# Altium footprint library Connector_JST.PcbLib: 558 footprints (part 9 of 35)
Each footprint in its own frame and in the unit in brackets; x right, y up, seen from the top. Pads: shape width x height; smd on the part's side, far side on the other; paste and mask are expansions set on the pad; w line width, h text height; cw(c..) or ccw(c..) is an arc to the next point about the centre after c.
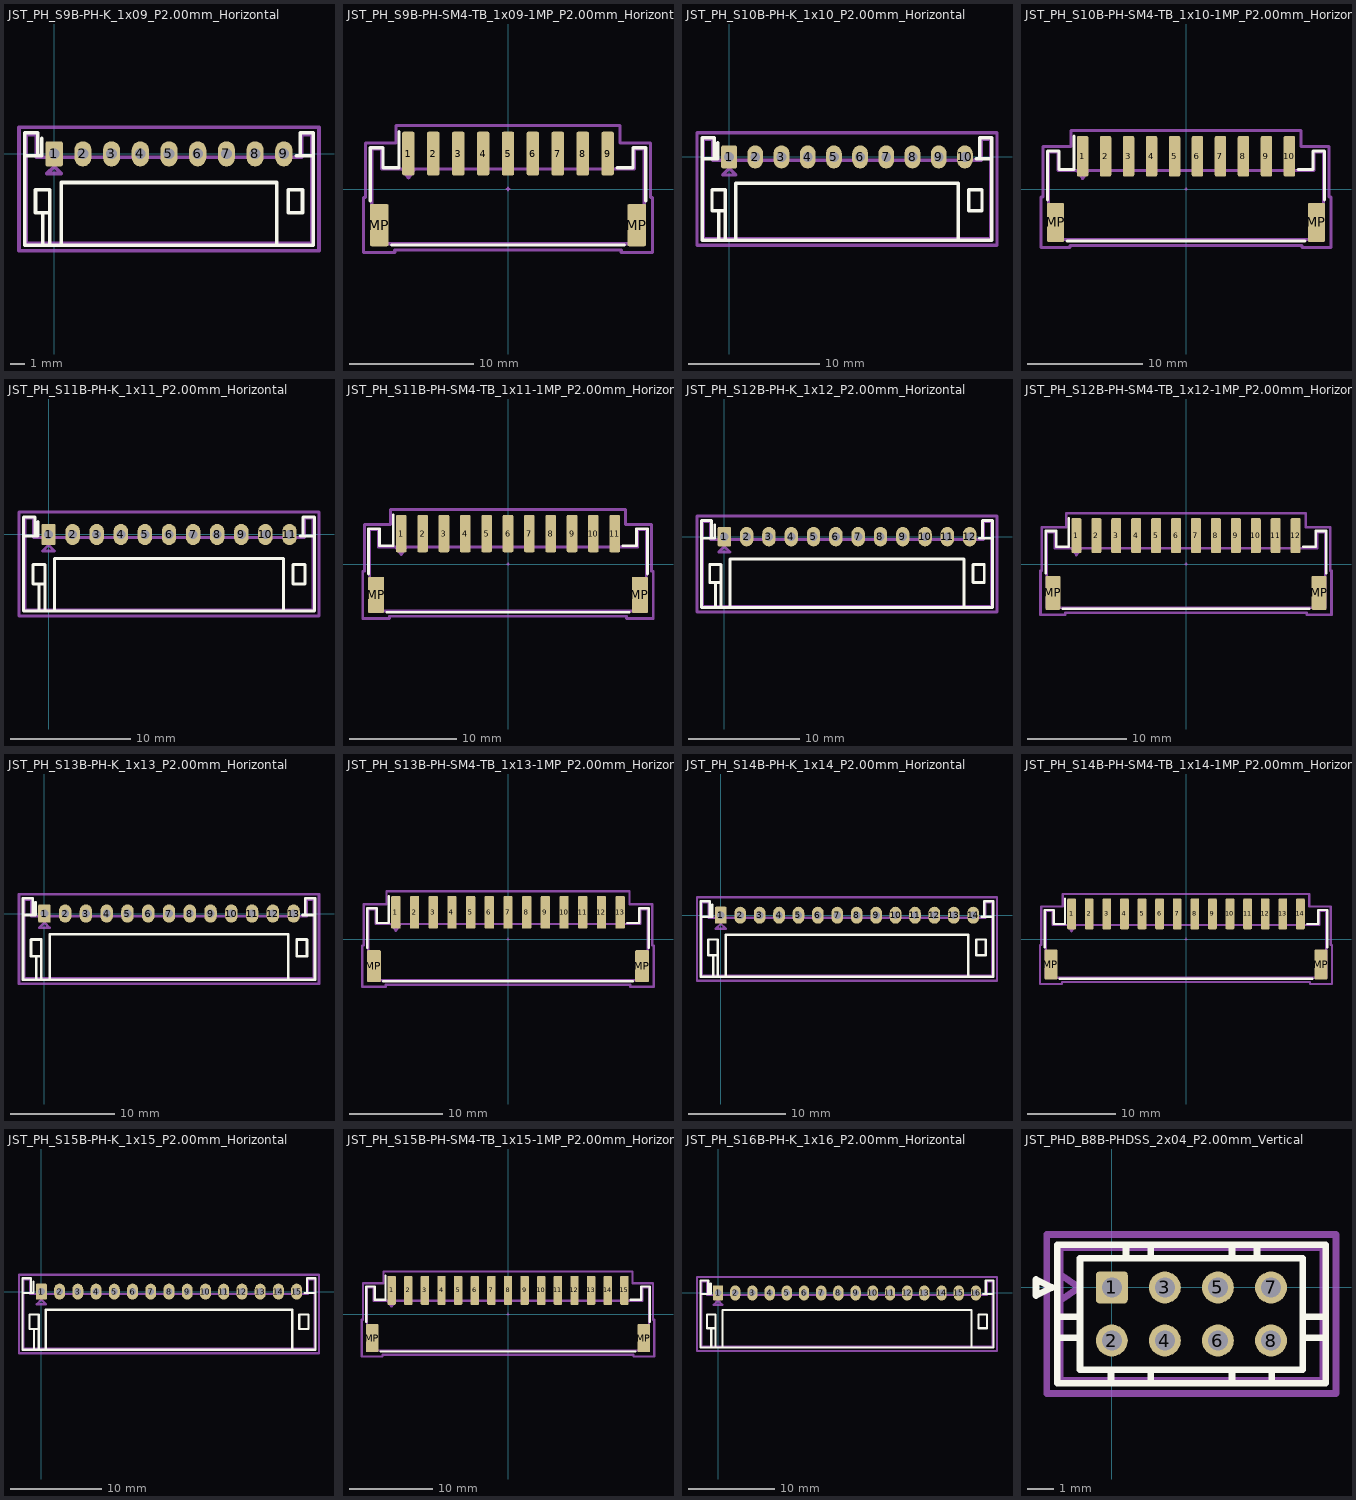
[diagram p8: the footprints below, top view; thin cyan lines are the x and y axes]

## JST_PH_S9B-PH-K_1x09_P2.00mm_Horizontal [mm] "JST_PH_S9B-PH-K_1x09_P2.00mm_Horizontal"
pads (9):
  rrect21% 1.2x1.75 hole 0.75: 1(0,0)
  rrect100% 1.2x1.75 hole 0.75: 2(2,0) 3(4,0) 4(6,0) 5(8,0) 6(10,0) 7(12,0) 8(14,0) 9(16,0)
F.SilkS:
  lines w0.254: -2.06,-0.14 -1.14,-0.14 ; -0.86,1.075 -0.86,-0.14 -1.14,-0.14 ; -0.8,-6.36 -0.8,-4.1 ; -0.3,-6.36 -0.3,-4.1 ; 0.5,-6.36 0.5,-2 15.5,-2 15.5,-6.36 ; 16.86,-0.14 17.14,-0.14 ; 18.06,-0.14 17.14,-0.14 ; -1.14,-0.14 -1.14,1.46 -2.06,1.46 -2.06,-6.36 18.06,-6.36 18.06,1.46 17.14,1.46 17.14,-0.14 ; -0.3,-4.1 -0.3,-2.5 -1.3,-2.5 -1.3,-4.1 -0.3,-4.1 ; 16.3,-4.1 17.3,-4.1 17.3,-2.5 16.3,-2.5 16.3,-4.1
Top Component Center:
  lines w0.127: -0.127,0 0.127,0 ; 0,-0.127 0,0.127
Top Assembly:
  lines w0.254: -1.95,-6.25 17.95,-6.25 17.95,1.35 17.25,1.35 17.25,-0.25 -1.25,-0.25 -1.25,1.35 -1.95,1.35 -1.95,-6.25 ; -0.5,-1.375 0,-0.875 0.5,-1.375 -0.5,-1.375
Top Courtyard:
  lines w0.254: -2.45,-6.75 18.45,-6.75 18.45,1.85 -2.45,1.85 -2.45,-6.75
Top Designator:
  text ".Designator" at 4.444,-4.408 h1.52
3D body "JST_PH_S9B-PH-K_1x09_P2.00mm_Horizontal.step": height 4.85, standoff -3.4, extent -1.95,-6.25 17.95,1.35

## JST_PH_S9B-PH-SM4-TB_1x09-1MP_P2.00mm_Horizontal [mm] "JST_PH_S9B-PH-SM4-TB_1x09-1MP_P2.00mm_Horizontal"
pads (11):
  rrect25% 1x3.5 smd: 1(-8,2.85) 2(-6,2.85) 3(-4,2.85) 4(-2,2.85) 5(0,2.85) 6(2,2.85) 7(4,2.85) 8(6,2.85) 9(8,2.85)
  rrect17% 1.5x3.4 smd: MP(-10.35,-2.9) MP(10.35,-2.9)
F.SilkS:
  lines w0.254: -11.06,-0.94 -11.06,3.31 -10.04,3.31 -10.04,1.71 -8.76,1.71 -8.76,4.6 ; -9.34,-4.51 9.34,-4.51 ; 8.76,1.71 10.04,1.71 10.04,3.31 11.06,3.31 11.06,-0.94
Top Component Center:
  lines w0.127: -0.127,0 0.127,0 ; 0,-0.127 0,0.127
Top Assembly:
  lines w0.254: -8.5,1.6 -8,0.893 -7.5,1.6 ; -10.95,-4.4 10.95,-4.4 10.95,3.2 10.15,3.2 10.15,1.6 -10.15,1.6 -10.15,3.2 -10.95,3.2 -10.95,-4.4
Top Courtyard:
  lines w0.254: -11.6,-5.1 -9.1,-5.1 -9.1,-4.9 9.1,-4.9 9.1,-5.1 11.6,-5.1 11.6,-0.69 11.45,-0.69 11.45,3.7 9,3.7 9,5.1 -9,5.1 -9,3.7 -11.45,3.7 -11.45,-0.69 -11.6,-0.69 -11.6,-5.1
Top Designator:
  text ".Designator" at -3.43,-0.344 h1.52

## JST_PH_S10B-PH-K_1x10_P2.00mm_Horizontal [mm] "JST_PH_S10B-PH-K_1x10_P2.00mm_Horizontal"
pads (10):
  rrect21% 1.2x1.75 hole 0.75: 1(0,0)
  rrect100% 1.2x1.75 hole 0.75: 2(2,0) 3(4,0) 4(6,0) 5(8,0) 6(10,0) 7(12,0) 8(14,0) 9(16,0) 10(18,0)
F.SilkS:
  lines w0.254: -2.06,-0.14 -1.14,-0.14 ; -0.86,1.075 -0.86,-0.14 -1.14,-0.14 ; -0.8,-6.36 -0.8,-4.1 ; -0.3,-6.36 -0.3,-4.1 ; 0.5,-6.36 0.5,-2 17.5,-2 17.5,-6.36 ; 18.86,-0.14 19.14,-0.14 ; 20.06,-0.14 19.14,-0.14 ; -1.14,-0.14 -1.14,1.46 -2.06,1.46 -2.06,-6.36 20.06,-6.36 20.06,1.46 19.14,1.46 19.14,-0.14 ; -0.3,-4.1 -0.3,-2.5 -1.3,-2.5 -1.3,-4.1 -0.3,-4.1 ; 18.3,-4.1 19.3,-4.1 19.3,-2.5 18.3,-2.5 18.3,-4.1
Top Component Center:
  lines w0.127: -0.127,0 0.127,0 ; 0,-0.127 0,0.127
Top Assembly:
  lines w0.254: -1.95,-6.25 19.95,-6.25 19.95,1.35 19.25,1.35 19.25,-0.25 -1.25,-0.25 -1.25,1.35 -1.95,1.35 -1.95,-6.25 ; -0.5,-1.375 0,-0.875 0.5,-1.375 -0.5,-1.375
Top Courtyard:
  lines w0.254: -2.45,-6.75 20.45,-6.75 20.45,1.85 -2.45,1.85 -2.45,-6.75
Top Designator:
  text ".Designator" at 5.587,-4.154 h1.52
3D body "JST_PH_S10B-PH-K_1x10_P2.00mm_Horizontal.step": height 4.85, standoff -3.4, extent -1.95,-6.25 19.95,1.35

## JST_PH_S10B-PH-SM4-TB_1x10-1MP_P2.00mm_Horizontal [mm] "JST_PH_S10B-PH-SM4-TB_1x10-1MP_P2.00mm_Horizontal"
pads (12):
  rrect25% 1x3.5 smd: 1(-9,2.85) 2(-7,2.85) 3(-5,2.85) 4(-3,2.85) 5(-1,2.85) 6(1,2.85) 7(3,2.85) 8(5,2.85) 9(7,2.85) 10(9,2.85)
  rrect17% 1.5x3.4 smd: MP(-11.35,-2.9) MP(11.35,-2.9)
F.SilkS:
  lines w0.254: -12.06,-0.94 -12.06,3.31 -11.04,3.31 -11.04,1.71 -9.76,1.71 -9.76,4.6 ; -10.34,-4.51 10.34,-4.51 ; 9.76,1.71 11.04,1.71 11.04,3.31 12.06,3.31 12.06,-0.94
Top Component Center:
  lines w0.127: -0.127,0 0.127,0 ; 0,-0.127 0,0.127
Top Assembly:
  lines w0.254: -9.5,1.6 -9,0.893 -8.5,1.6 ; -11.95,-4.4 -11.95,3.2 -11.15,3.2 -11.15,1.6 11.15,1.6 11.15,3.2 11.95,3.2 11.95,-4.4 -11.95,-4.4
Top Courtyard:
  lines w0.254: -12.6,-5.1 -12.6,-0.69 -12.45,-0.69 -12.45,3.7 -10,3.7 -10,5.1 10,5.1 10,3.7 12.45,3.7 12.45,-0.69 12.6,-0.69 12.6,-5.1 10.1,-5.1 10.1,-4.9 -10.1,-4.9 -10.1,-5.1 -12.6,-5.1
Top Designator:
  text ".Designator" at -3.43,-0.344 h1.52

## JST_PH_S11B-PH-K_1x11_P2.00mm_Horizontal [mm] "JST_PH_S11B-PH-K_1x11_P2.00mm_Horizontal"
pads (11):
  rrect21% 1.2x1.75 hole 0.75: 1(0,0)
  rrect100% 1.2x1.75 hole 0.75: 2(2,0) 3(4,0) 4(6,0) 5(8,0) 6(10,0) 7(12,0) 8(14,0) 9(16,0) 10(18,0) 11(20,0)
F.SilkS:
  lines w0.254: -2.06,-0.14 -1.14,-0.14 ; -0.86,1.075 -0.86,-0.14 -1.14,-0.14 ; -0.8,-6.36 -0.8,-4.1 ; -0.3,-6.36 -0.3,-4.1 ; 0.5,-6.36 0.5,-2 19.5,-2 19.5,-6.36 ; 20.86,-0.14 21.14,-0.14 ; 22.06,-0.14 21.14,-0.14 ; -1.14,-0.14 -1.14,1.46 -2.06,1.46 -2.06,-6.36 22.06,-6.36 22.06,1.46 21.14,1.46 21.14,-0.14 ; -0.3,-4.1 -1.3,-4.1 -1.3,-2.5 -0.3,-2.5 -0.3,-4.1 ; 20.3,-4.1 20.3,-2.5 21.3,-2.5 21.3,-4.1 20.3,-4.1
Top Component Center:
  lines w0.127: -0.127,0 0.127,0 ; 0,-0.127 0,0.127
Top Assembly:
  lines w0.254: -1.95,-6.25 -1.95,1.35 -1.25,1.35 -1.25,-0.25 21.25,-0.25 21.25,1.35 21.95,1.35 21.95,-6.25 -1.95,-6.25 ; -0.5,-1.375 0.5,-1.375 0,-0.875 -0.5,-1.375
Top Courtyard:
  lines w0.254: -2.45,-6.75 -2.45,1.85 22.45,1.85 22.45,-6.75 -2.45,-6.75
Top Designator:
  text ".Designator" at 6.73,-4.408 h1.52
3D body "JST_PH_S11B-PH-K_1x11_P2.00mm_Horizontal.step": height 4.85, standoff -3.4, extent -1.95,-6.25 21.95,1.35

## JST_PH_S11B-PH-SM4-TB_1x11-1MP_P2.00mm_Horizontal [mm] "JST_PH_S11B-PH-SM4-TB_1x11-1MP_P2.00mm_Horizontal"
pads (13):
  rrect25% 1x3.5 smd: 1(-10,2.85) 2(-8,2.85) 3(-6,2.85) 4(-4,2.85) 5(-2,2.85) 6(0,2.85) 7(2,2.85) 8(4,2.85) 9(6,2.85) 10(8,2.85) 11(10,2.85)
  rrect17% 1.5x3.4 smd: MP(-12.35,-2.9) MP(12.35,-2.9)
F.SilkS:
  lines w0.254: -13.06,-0.94 -13.06,3.31 -12.04,3.31 -12.04,1.71 -10.76,1.71 -10.76,4.6 ; -11.34,-4.51 11.34,-4.51 ; 10.76,1.71 12.04,1.71 12.04,3.31 13.06,3.31 13.06,-0.94
Top Component Center:
  lines w0.127: -0.127,0 0.127,0 ; 0,-0.127 0,0.127
Top Assembly:
  lines w0.254: -10.5,1.6 -10,0.893 -9.5,1.6 ; -12.95,-4.4 12.95,-4.4 12.95,3.2 12.15,3.2 12.15,1.6 -12.15,1.6 -12.15,3.2 -12.95,3.2 -12.95,-4.4
Top Courtyard:
  lines w0.254: -13.6,-5.1 -11.1,-5.1 -11.1,-4.9 11.1,-4.9 11.1,-5.1 13.6,-5.1 13.6,-0.69 13.45,-0.69 13.45,3.7 11,3.7 11,5.1 -11,5.1 -11,3.7 -13.45,3.7 -13.45,-0.69 -13.6,-0.69 -13.6,-5.1
Top Designator:
  text ".Designator" at -3.43,-0.344 h1.52

## JST_PH_S12B-PH-K_1x12_P2.00mm_Horizontal [mm] "JST_PH_S12B-PH-K_1x12_P2.00mm_Horizontal"
pads (12):
  rrect21% 1.2x1.75 hole 0.75: 1(0,0)
  rrect100% 1.2x1.75 hole 0.75: 2(2,0) 3(4,0) 4(6,0) 5(8,0) 6(10,0) 7(12,0) 8(14,0) 9(16,0) 10(18,0) 11(20,0) 12(22,0)
F.SilkS:
  lines w0.254: -2.06,-0.14 -1.14,-0.14 ; -0.86,1.075 -0.86,-0.14 -1.14,-0.14 ; -0.8,-6.36 -0.8,-4.1 ; -0.3,-6.36 -0.3,-4.1 ; 0.5,-6.36 0.5,-2 21.5,-2 21.5,-6.36 ; 22.86,-0.14 23.14,-0.14 ; 24.06,-0.14 23.14,-0.14 ; -1.14,-0.14 -1.14,1.46 -2.06,1.46 -2.06,-6.36 24.06,-6.36 24.06,1.46 23.14,1.46 23.14,-0.14 ; -0.3,-4.1 -0.3,-2.5 -1.3,-2.5 -1.3,-4.1 -0.3,-4.1 ; 22.3,-4.1 23.3,-4.1 23.3,-2.5 22.3,-2.5 22.3,-4.1
Top Component Center:
  lines w0.127: -0.127,0 0.127,0 ; 0,-0.127 0,0.127
Top Assembly:
  lines w0.254: -1.95,-6.25 23.95,-6.25 23.95,1.35 23.25,1.35 23.25,-0.25 -1.25,-0.25 -1.25,1.35 -1.95,1.35 -1.95,-6.25 ; -0.5,-1.375 0,-0.875 0.5,-1.375 -0.5,-1.375
Top Courtyard:
  lines w0.254: -2.45,-6.75 24.45,-6.75 24.45,1.85 -2.45,1.85 -2.45,-6.75
Top Designator:
  text ".Designator" at 7.873,-4.281 h1.52
3D body "JST_PH_S12B-PH-K_1x12_P2.00mm_Horizontal.step": height 4.85, standoff -3.4, extent -1.95,-6.25 23.95,1.35

## JST_PH_S12B-PH-SM4-TB_1x12-1MP_P2.00mm_Horizontal [mm] "JST_PH_S12B-PH-SM4-TB_1x12-1MP_P2.00mm_Horizontal"
pads (14):
  rrect25% 1x3.5 smd: 1(-11,2.85) 2(-9,2.85) 3(-7,2.85) 4(-5,2.85) 5(-3,2.85) 6(-1,2.85) 7(1,2.85) 8(3,2.85) 9(5,2.85) 10(7,2.85) 11(9,2.85) 12(11,2.85)
  rrect17% 1.5x3.4 smd: MP(-13.35,-2.9) MP(13.35,-2.9)
F.SilkS:
  lines w0.254: -14.06,-0.94 -14.06,3.31 -13.04,3.31 -13.04,1.71 -11.76,1.71 -11.76,4.6 ; -12.34,-4.51 12.34,-4.51 ; 11.76,1.71 13.04,1.71 13.04,3.31 14.06,3.31 14.06,-0.94
Top Component Center:
  lines w0.127: -0.127,0 0.127,0 ; 0,-0.127 0,0.127
Top Assembly:
  lines w0.254: -11.5,1.6 -11,0.893 -10.5,1.6 ; -13.95,-4.4 -13.95,3.2 -13.15,3.2 -13.15,1.6 13.15,1.6 13.15,3.2 13.95,3.2 13.95,-4.4 -13.95,-4.4
Top Courtyard:
  lines w0.254: -14.6,-5.1 -14.6,-0.69 -14.45,-0.69 -14.45,3.7 -12,3.7 -12,5.1 12,5.1 12,3.7 14.45,3.7 14.45,-0.69 14.6,-0.69 14.6,-5.1 12.1,-5.1 12.1,-4.9 -12.1,-4.9 -12.1,-5.1 -14.6,-5.1
Top Designator:
  text ".Designator" at -3.43,-0.344 h1.52

## JST_PH_S13B-PH-K_1x13_P2.00mm_Horizontal [mm] "JST_PH_S13B-PH-K_1x13_P2.00mm_Horizontal"
pads (13):
  rrect21% 1.2x1.75 hole 0.75: 1(0,0)
  rrect100% 1.2x1.75 hole 0.75: 2(2,0) 3(4,0) 4(6,0) 5(8,0) 6(10,0) 7(12,0) 8(14,0) 9(16,0) 10(18,0) 11(20,0) 12(22,0) 13(24,0)
F.SilkS:
  lines w0.254: -2.06,-0.14 -1.14,-0.14 ; -0.86,1.075 -0.86,-0.14 -1.14,-0.14 ; -0.8,-6.36 -0.8,-4.1 ; -0.3,-6.36 -0.3,-4.1 ; 0.5,-6.36 0.5,-2 23.5,-2 23.5,-6.36 ; 24.86,-0.14 25.14,-0.14 ; 26.06,-0.14 25.14,-0.14 ; -1.14,-0.14 -1.14,1.46 -2.06,1.46 -2.06,-6.36 26.06,-6.36 26.06,1.46 25.14,1.46 25.14,-0.14 ; -0.3,-4.1 -1.3,-4.1 -1.3,-2.5 -0.3,-2.5 -0.3,-4.1 ; 24.3,-4.1 24.3,-2.5 25.3,-2.5 25.3,-4.1 24.3,-4.1
Top Component Center:
  lines w0.127: -0.127,0 0.127,0 ; 0,-0.127 0,0.127
Top Assembly:
  lines w0.254: -1.95,-6.25 -1.95,1.35 -1.25,1.35 -1.25,-0.25 25.25,-0.25 25.25,1.35 25.95,1.35 25.95,-6.25 -1.95,-6.25 ; -0.5,-1.375 0.5,-1.375 0,-0.875 -0.5,-1.375
Top Courtyard:
  lines w0.254: -2.45,-6.75 -2.45,1.85 26.45,1.85 26.45,-6.75 -2.45,-6.75
Top Designator:
  text ".Designator" at 8.508,-4.662 h1.52
3D body "JST_PH_S13B-PH-K_1x13_P2.00mm_Horizontal.step": height 4.85, standoff -3.4, extent -1.95,-6.25 25.95,1.35

## JST_PH_S13B-PH-SM4-TB_1x13-1MP_P2.00mm_Horizontal [mm] "JST_PH_S13B-PH-SM4-TB_1x13-1MP_P2.00mm_Horizontal"
pads (15):
  rrect25% 1x3.5 smd: 1(-12,2.85) 2(-10,2.85) 3(-8,2.85) 4(-6,2.85) 5(-4,2.85) 6(-2,2.85) 7(0,2.85) 8(2,2.85) 9(4,2.85) 10(6,2.85) 11(8,2.85) 12(10,2.85) 13(12,2.85)
  rrect17% 1.5x3.4 smd: MP(-14.35,-2.9) MP(14.35,-2.9)
F.SilkS:
  lines w0.254: -15.06,-0.94 -15.06,3.31 -14.04,3.31 -14.04,1.71 -12.76,1.71 -12.76,4.6 ; -13.34,-4.51 13.34,-4.51 ; 12.76,1.71 14.04,1.71 14.04,3.31 15.06,3.31 15.06,-0.94
Top Component Center:
  lines w0.127: -0.127,0 0.127,0 ; 0,-0.127 0,0.127
Top Assembly:
  lines w0.254: -12.5,1.6 -12,0.893 -11.5,1.6 ; -14.95,-4.4 -14.95,3.2 -14.15,3.2 -14.15,1.6 14.15,1.6 14.15,3.2 14.95,3.2 14.95,-4.4 -14.95,-4.4
Top Courtyard:
  lines w0.254: -15.6,-5.1 -15.6,-0.69 -15.45,-0.69 -15.45,3.7 -13,3.7 -13,5.1 13,5.1 13,3.7 15.45,3.7 15.45,-0.69 15.6,-0.69 15.6,-5.1 13.1,-5.1 13.1,-4.9 -13.1,-4.9 -13.1,-5.1 -15.6,-5.1
Top Designator:
  text ".Designator" at -3.43,-0.344 h1.52

## JST_PH_S14B-PH-K_1x14_P2.00mm_Horizontal [mm] "JST_PH_S14B-PH-K_1x14_P2.00mm_Horizontal"
pads (14):
  rrect21% 1.2x1.75 hole 0.75: 1(0,0)
  rrect100% 1.2x1.75 hole 0.75: 2(2,0) 3(4,0) 4(6,0) 5(8,0) 6(10,0) 7(12,0) 8(14,0) 9(16,0) 10(18,0) 11(20,0) 12(22,0) 13(24,0) 14(26,0)
F.SilkS:
  lines w0.254: -2.06,-0.14 -1.14,-0.14 ; -0.86,1.075 -0.86,-0.14 -1.14,-0.14 ; -0.8,-6.36 -0.8,-4.1 ; -0.3,-6.36 -0.3,-4.1 ; 0.5,-6.36 0.5,-2 25.5,-2 25.5,-6.36 ; 26.86,-0.14 27.14,-0.14 ; 28.06,-0.14 27.14,-0.14 ; -1.14,-0.14 -1.14,1.46 -2.06,1.46 -2.06,-6.36 28.06,-6.36 28.06,1.46 27.14,1.46 27.14,-0.14 ; -0.3,-4.1 -0.3,-2.5 -1.3,-2.5 -1.3,-4.1 -0.3,-4.1 ; 26.3,-4.1 27.3,-4.1 27.3,-2.5 26.3,-2.5 26.3,-4.1
Top Component Center:
  lines w0.127: -0.127,0 0.127,0 ; 0,-0.127 0,0.127
Top Assembly:
  lines w0.254: -1.95,-6.25 27.95,-6.25 27.95,1.35 27.25,1.35 27.25,-0.25 -1.25,-0.25 -1.25,1.35 -1.95,1.35 -1.95,-6.25 ; -0.5,-1.375 0,-0.875 0.5,-1.375 -0.5,-1.375
Top Courtyard:
  lines w0.254: -2.45,-6.75 28.45,-6.75 28.45,1.85 -2.45,1.85 -2.45,-6.75
Top Designator:
  text ".Designator" at 9.651,-4.662 h1.52
3D body "JST_PH_S14B-PH-K_1x14_P2.00mm_Horizontal.step": height 4.85, standoff -3.4, extent -1.95,-6.25 27.95,1.35

## JST_PH_S14B-PH-SM4-TB_1x14-1MP_P2.00mm_Horizontal [mm] "JST_PH_S14B-PH-SM4-TB_1x14-1MP_P2.00mm_Horizontal"
pads (16):
  rrect25% 1x3.5 smd: 1(-13,2.85) 2(-11,2.85) 3(-9,2.85) 4(-7,2.85) 5(-5,2.85) 6(-3,2.85) 7(-1,2.85) 8(1,2.85) 9(3,2.85) 10(5,2.85) 11(7,2.85) 12(9,2.85) 13(11,2.85) 14(13,2.85)
  rrect17% 1.5x3.4 smd: MP(-15.35,-2.9) MP(15.35,-2.9)
F.SilkS:
  lines w0.254: -16.06,-0.94 -16.06,3.31 -15.04,3.31 -15.04,1.71 -13.76,1.71 -13.76,4.6 ; -14.34,-4.51 14.34,-4.51 ; 13.76,1.71 15.04,1.71 15.04,3.31 16.06,3.31 16.06,-0.94
Top Component Center:
  lines w0.127: -0.127,0 0.127,0 ; 0,-0.127 0,0.127
Top Assembly:
  lines w0.254: -13.5,1.6 -13,0.893 -12.5,1.6 ; -15.95,-4.4 -15.95,3.2 -15.15,3.2 -15.15,1.6 15.15,1.6 15.15,3.2 15.95,3.2 15.95,-4.4 -15.95,-4.4
Top Courtyard:
  lines w0.254: -16.6,-5.1 -16.6,-0.69 -16.45,-0.69 -16.45,3.7 -14,3.7 -14,5.1 14,5.1 14,3.7 16.45,3.7 16.45,-0.69 16.6,-0.69 16.6,-5.1 14.1,-5.1 14.1,-4.9 -14.1,-4.9 -14.1,-5.1 -16.6,-5.1
Top Designator:
  text ".Designator" at -3.43,-0.344 h1.52

## JST_PH_S15B-PH-K_1x15_P2.00mm_Horizontal [mm] "JST_PH_S15B-PH-K_1x15_P2.00mm_Horizontal"
pads (15):
  rrect21% 1.2x1.75 hole 0.75: 1(0,0)
  rrect100% 1.2x1.75 hole 0.75: 2(2,0) 3(4,0) 4(6,0) 5(8,0) 6(10,0) 7(12,0) 8(14,0) 9(16,0) 10(18,0) 11(20,0) 12(22,0) 13(24,0) 14(26,0) 15(28,0)
F.SilkS:
  lines w0.254: -2.06,-0.14 -1.14,-0.14 ; -0.86,1.075 -0.86,-0.14 -1.14,-0.14 ; -0.8,-6.36 -0.8,-4.1 ; -0.3,-6.36 -0.3,-4.1 ; 0.5,-6.36 0.5,-2 27.5,-2 27.5,-6.36 ; 28.86,-0.14 29.14,-0.14 ; 30.06,-0.14 29.14,-0.14 ; -1.14,-0.14 -1.14,1.46 -2.06,1.46 -2.06,-6.36 30.06,-6.36 30.06,1.46 29.14,1.46 29.14,-0.14 ; -0.3,-4.1 -0.3,-2.5 -1.3,-2.5 -1.3,-4.1 -0.3,-4.1 ; 28.3,-4.1 29.3,-4.1 29.3,-2.5 28.3,-2.5 28.3,-4.1
Top Component Center:
  lines w0.127: -0.127,0 0.127,0 ; 0,-0.127 0,0.127
Top Assembly:
  lines w0.254: -1.95,-6.25 29.95,-6.25 29.95,1.35 29.25,1.35 29.25,-0.25 -1.25,-0.25 -1.25,1.35 -1.95,1.35 -1.95,-6.25 ; -0.5,-1.375 0,-0.875 0.5,-1.375 -0.5,-1.375
Top Courtyard:
  lines w0.254: -2.45,-6.75 30.45,-6.75 30.45,1.85 -2.45,1.85 -2.45,-6.75
Top Designator:
  text ".Designator" at 10.667,-4.408 h1.52
3D body "JST_PH_S15B-PH-K_1x15_P2.00mm_Horizontal.step": height 4.85, standoff -3.4, extent -1.95,-6.25 29.95,1.35

## JST_PH_S15B-PH-SM4-TB_1x15-1MP_P2.00mm_Horizontal [mm] "JST_PH_S15B-PH-SM4-TB_1x15-1MP_P2.00mm_Horizontal"
pads (17):
  rrect25% 1x3.5 smd: 1(-14,2.85) 2(-12,2.85) 3(-10,2.85) 4(-8,2.85) 5(-6,2.85) 6(-4,2.85) 7(-2,2.85) 8(0,2.85) 9(2,2.85) 10(4,2.85) 11(6,2.85) 12(8,2.85) 13(10,2.85) 14(12,2.85) 15(14,2.85)
  rrect17% 1.5x3.4 smd: MP(-16.35,-2.9) MP(16.35,-2.9)
F.SilkS:
  lines w0.254: -17.06,-0.94 -17.06,3.31 -16.04,3.31 -16.04,1.71 -14.76,1.71 -14.76,4.6 ; -15.34,-4.51 15.34,-4.51 ; 14.76,1.71 16.04,1.71 16.04,3.31 17.06,3.31 17.06,-0.94
Top Component Center:
  lines w0.127: -0.127,0 0.127,0 ; 0,-0.127 0,0.127
Top Assembly:
  lines w0.254: -14.5,1.6 -14,0.893 -13.5,1.6 ; -16.95,-4.4 16.95,-4.4 16.95,3.2 16.15,3.2 16.15,1.6 -16.15,1.6 -16.15,3.2 -16.95,3.2 -16.95,-4.4
Top Courtyard:
  lines w0.254: -17.6,-5.1 -15.1,-5.1 -15.1,-4.9 15.1,-4.9 15.1,-5.1 17.6,-5.1 17.6,-0.69 17.45,-0.69 17.45,3.7 15,3.7 15,5.1 -15,5.1 -15,3.7 -17.45,3.7 -17.45,-0.69 -17.6,-0.69 -17.6,-5.1
Top Designator:
  text ".Designator" at -3.43,-0.344 h1.52

## JST_PH_S16B-PH-K_1x16_P2.00mm_Horizontal [mm] "JST_PH_S16B-PH-K_1x16_P2.00mm_Horizontal"
pads (16):
  rrect21% 1.2x1.75 hole 0.75: 1(0,0)
  rrect100% 1.2x1.75 hole 0.75: 2(2,0) 3(4,0) 4(6,0) 5(8,0) 6(10,0) 7(12,0) 8(14,0) 9(16,0) 10(18,0) 11(20,0) 12(22,0) 13(24,0) 14(26,0) 15(28,0) 16(30,0)
F.SilkS:
  lines w0.254: -2.06,-0.14 -1.14,-0.14 ; -0.86,1.075 -0.86,-0.14 -1.14,-0.14 ; -0.8,-6.36 -0.8,-4.1 ; -0.3,-6.36 -0.3,-4.1 ; 0.5,-6.36 0.5,-2 29.5,-2 29.5,-6.36 ; 30.86,-0.14 31.14,-0.14 ; 32.06,-0.14 31.14,-0.14 ; -1.14,-0.14 -1.14,1.46 -2.06,1.46 -2.06,-6.36 32.06,-6.36 32.06,1.46 31.14,1.46 31.14,-0.14 ; -0.3,-4.1 -1.3,-4.1 -1.3,-2.5 -0.3,-2.5 -0.3,-4.1 ; 30.3,-4.1 30.3,-2.5 31.3,-2.5 31.3,-4.1 30.3,-4.1
Top Component Center:
  lines w0.127: -0.127,0 0.127,0 ; 0,-0.127 0,0.127
Top Assembly:
  lines w0.254: -1.95,-6.25 -1.95,1.35 -1.25,1.35 -1.25,-0.25 31.25,-0.25 31.25,1.35 31.95,1.35 31.95,-6.25 -1.95,-6.25 ; -0.5,-1.375 0.5,-1.375 0,-0.875 -0.5,-1.375
Top Courtyard:
  lines w0.254: -2.45,-6.75 -2.45,1.85 32.45,1.85 32.45,-6.75 -2.45,-6.75
Top Designator:
  text ".Designator" at 11.556,-4.281 h1.52
3D body "JST_PH_S16B-PH-K_1x16_P2.00mm_Horizontal.step": height 4.85, standoff -3.4, extent -1.95,-6.25 31.95,1.35

## JST_PHD_B8B-PHDSS_2x04_P2.00mm_Vertical [mm] "JST_PHD_B8B-PHDSS_2x04_P2.00mm_Vertical"
pads (8):
  rrect21% 1.2x1.2 hole 0.75: 1(0,0)
  round 1.2 hole 0.75: 2(0,-2) 3(2,0) 4(2,-2) 5(4,0) 6(4,-2) 7(6,0) 8(6,-2)
F.SilkS:
  lines w0.254: -2.06,-1.9 -1.2,-1.9 ; -2.06,-1.1 -1.2,-1.1 ; -0.03,-3.61 -0.03,-3.1 ; 0.53,1.1 0.53,1.61 ; 1.47,-3.61 1.47,-3.1 ; 1.47,1.1 1.47,1.61 ; 4.53,-3.61 4.53,-3.1 ; 4.53,1.1 4.53,1.61 ; 5.47,1.1 5.47,1.61 ; 6.03,-3.61 6.03,-3.1 ; 7.2,-1.9 8.06,-1.9 ; 7.2,-1.1 8.06,-1.1 ; -2.86,-0.3 -2.26,0 -2.86,0.3 -2.86,-0.3 ; -2.06,-3.61 8.06,-3.61 8.06,1.61 -2.06,1.61 -2.06,-3.61 ; -1.2,-3.1 7.2,-3.1 7.2,1.1 -1.2,1.1 -1.2,-3.1
Top Component Center:
  lines w0.127: -0.127,0 0.127,0 ; 0,-0.127 0,0.127
Top Assembly:
  lines w0.254: -1.95,-0.5 -1.243,0 -1.95,0.5 ; -1.95,-3.5 7.95,-3.5 7.95,1.5 -1.95,1.5 -1.95,-3.5
Top Courtyard:
  lines w0.254: -2.45,-4 8.45,-4 8.45,2 -2.45,2 -2.45,-4
Top Designator:
  text ".Designator" at -0.635,-1.344 h1.52